# Altium footprint library starter_lib.PcbLib: 11 footprints
Each footprint in its own frame and in the unit in brackets; x right, y up, seen from the top. Pads: shape width x height; smd on the part's side, far side on the other; paste and mask are expansions set on the pad; w line width, h text height; cw(c..) or ccw(c..) is an arc to the next point about the centre after c.
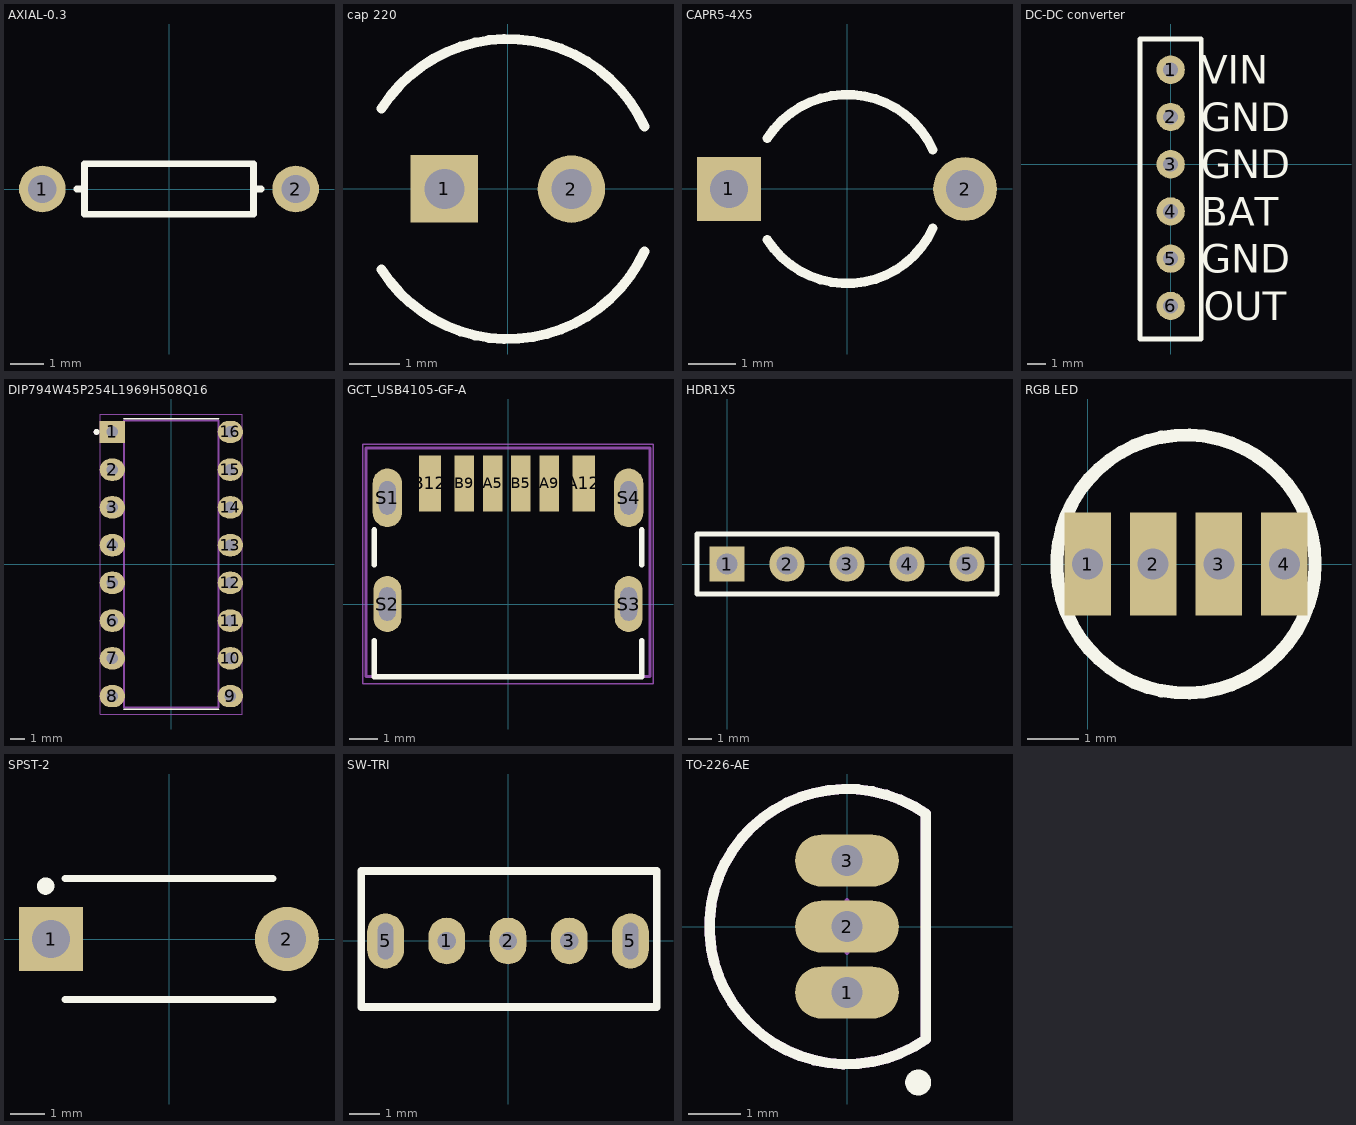
[diagram p0: the footprints below, top view; thin cyan lines are the x and y axes]

## AXIAL-0.3 [mm] "Axial Device, Thru-Hole; 2 Leads; 0.3 in Pin Spacing"
height 1.524
pads (2):
  round 1.4 hole 0.85: 1(-3.81,0) 2(3.81,0)
Top Overlay:
  lines w0.2: -2.769,0 -2.54,0 ; 2.769,0 2.54,0 ; 2.54,0 2.54,-0.762 -2.54,-0.762 -2.54,0.762 2.54,0.762 2.54,0

## cap 220 [mm] "Capacitor; 2 Leads"
height 12
pads (2):
  rect 1.35x1.35 hole 0.8: 1(-1.27,0)
  round 1.35 hole 0.8: 2(1.27,0)
Top Overlay:
  lines w0.2: -2.53,-1.613 ccw(c0,0) 2.728,-1.248 ; -2.53,1.613 cw(c0,0) 2.728,1.248

## CAPR5-4X5 [mm] "Capacitor; 2 Leads"
height 12
pads (2):
  rect 1.35x1.35 hole 0.8: 1(-2.5,0)
  round 1.35 hole 0.8: 2(2.5,0)
Top Overlay:
  lines w0.2: -1.687,-1.075 ccw(c0,0) 1.819,-0.832 ; -1.687,1.075 cw(c0,0) 1.819,0.832

## DC-DC converter [mil]
pads (6):
  round 60 hole 31.5: 1(0,200) 2(0,100) 3(0,0) 4(0,-100) 5(0,-200) 6(0,-300)
Top Layer:
  pour cut-out: -65,265
Top Overlay:
  lines w10: -65,-370 65,-370 65,265 -65,265 -65,-370
  text "GND" at 65,-30 h60
  text "GND" at 65,70 h60
  text "BAT" at 65,-130 h60
  text "OUT" at 70,-330 h60
  text "VIN" at 65,170 h60
  text "GND" at 65,-230 h60

## DIP794W45P254L1969H508Q16 [mm]
height 1.2
pads (16):
  rect 1.7x1.5 hole 0.78: 1(-3.97,8.89)
  oval 1.7x1.5 hole 0.78: 2(-3.97,6.35) 3(-3.97,3.81) 4(-3.97,1.27) 5(-3.97,-1.27) 6(-3.97,-3.81) 7(-3.97,-6.35) 8(-3.97,-8.89) 9(3.97,-8.89) 10(3.97,-6.35) 11(3.97,-3.81) 12(3.97,-1.27) 13(3.97,1.27) 14(3.97,3.81) 15(3.97,6.35) 16(3.97,8.89)
Top Overlay:
  circle w0.2: c-5.035,8.89 r0.1
  lines w0.127: -3.175,-9.775 3.175,-9.775 ; -3.175,9.775 3.175,9.775
Mechanical 13:
  circle w0.2: c-5.035,8.89 r0.1
  lines w0.127: -3.175,-9.653 -3.175,9.653 3.175,9.653 3.175,-9.653 -3.175,-9.653
Mechanical 15:
  lines w0.05: -4.785,-10.095 -4.785,10.095 4.785,10.095 4.785,-10.095 -4.785,-10.095

## GCT_USB4105-GF-A [mm]
height 7.87
pads (10):
  rect 0.7x2 smd: A5(-0.544,4.318) A9(1.476,4.318) B5(0.456,4.318) B9(-1.564,4.318)
  rect 0.8x2 smd: A12(2.706,4.318) B12(-2.794,4.318)
  oval 1.05x2.1 hole 0.6 slot 1.2 at 90 deg: S1(-4.32,3.8) S4(4.32,3.8)
  oval 1x2 hole 0.6 slot 1.2 at 90 deg: S2(-4.32,0) S3(4.32,0)
Top Overlay:
  lines w0.2: -4.79,-1.32 -4.79,-2.6 4.79,-2.6 4.79,-1.32 ; -4.79,1.4 -4.79,2.65 ; 4.79,1.4 4.79,2.65
Mechanical 13:
  lines w0.1: -5.08,-2.6 -5.08,5.588 5.08,5.588 5.08,-2.6 -5.08,-2.6
Mechanical 15:
  lines w0.05: -5.207,-2.85 5.207,-2.85 5.207,5.715 -5.207,5.715 -5.207,-2.85
3D body "step_temp.STEP": height 3.31, standoff -0.85, extent -4.79,-2.712 4.79,4.998

## HDR1X5 [mm] "Connector; Header; 5 Position"
height 5.08
pads (5):
  rect 1.5x1.5 hole 0.9: 1(0,0)
  round 1.5 hole 0.9: 2(2.54,0) 3(5.08,0) 4(7.62,0) 5(10.16,0)
Top Overlay:
  lines w0.2: -1.27,-1.27 11.43,-1.27 11.43,1.27 -1.27,1.27 -1.27,-1.27

## RGB LED [mm] "5mm"
pads (4):
  rect 0.9x2 hole 0.6: 1(0,0) 2(1.27,0) 3(2.54,0) 4(3.81,0)
Top Overlay:
  circle w0.254: c1.905,0 r2.5

## SPST-2 [mm] "Switch; 2 Leads"
height 8.2
pads (2):
  rect 1.85x1.85 hole 1.1: 1(-3.4,0)
  round 1.85 hole 1.1: 2(3.4,0)
Top Overlay:
  circle w0.25: c-3.556,1.524 r0.125
  lines w0.2: -3,-1.75 3,-1.75 ; -3,1.75 3,1.75

## SW-TRI [mm]
pads (5):
  oval 1.2x1.524 hole 0.6: 1(-2,0) 2(0,0) 3(2,0)
  oval 1.2x1.8 hole 1.2 slot 0.5 at 0 deg: 5(-4,0) 5(4,0)
Top Overlay:
  lines w0.254: -4.794,-2.159 -4.794,2.286 4.858,2.286 4.858,-2.159 -4.794,-2.159

## TO-226-AE [mm] "TO, Flat Index; 3 In-Line, Axial Leads; Body Dia. 4.8mm; Leads 0.55 x 0.51 mm (max)"
height 7.87
pads (3):
  oval 2x1 hole 0.6: 1(0,-1.27) 2(0,0) 3(0,1.27)
Top Overlay:
  circle w0.25: c1.371,-3.003 r0.125
  lines w0.2: 1.52,-2.171 cw(c0,0) 1.52,2.171 1.52,-2.171
Mechanical 13:
  lines w0.2: 1.52,-2.171 cw(c0,0) 1.52,2.171 1.52,-2.171
Mechanical 15:
  lines w0.1: -0.5,0 0.5,0 ; 0,-0.5 0,0.5
3D body: height 7.87, standoff 0, extent -2.651,-2.661 1.52,2.661